# Altium footprint library Motor_Driver_AltiumPCBLib.PcbLib: 1 footprints
Each footprint in its own frame and in the unit in brackets; x right, y up, seen from the top. Pads: shape width x height; smd on the part's side, far side on the other; paste and mask are expansions set on the pad; w line width, h text height; cw(c..) or ccw(c..) is an arc to the next point about the centre after c.
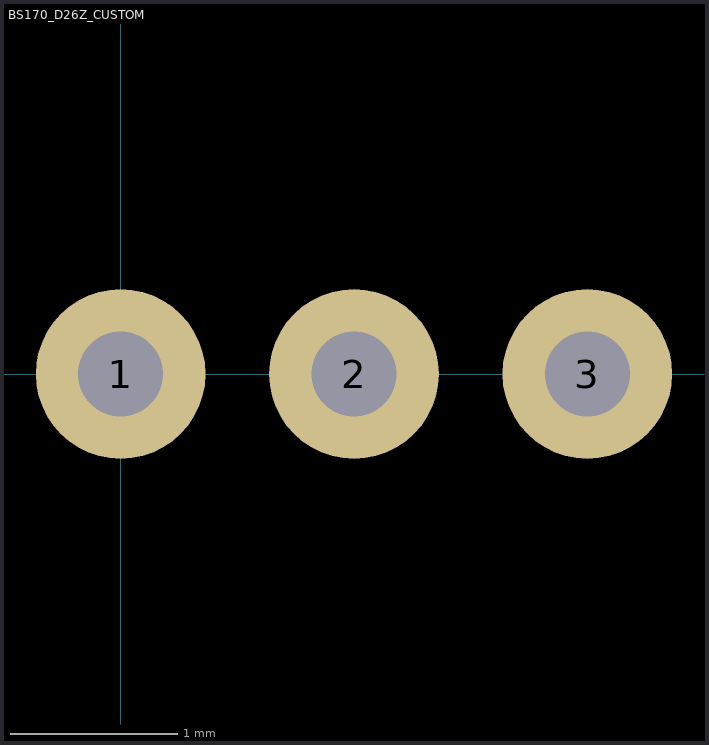
[diagram p0: the footprint, top view; thin cyan lines are the x and y axes]

## BS170_D26Z_CUSTOM [mil] "TH MOSFET"
pads (3):
  round 40 hole 20: 1(0,0) 2(55,0) 3(110,0)